# Altium footprint library tor1kkLib.PcbLib: 48 footprints (part 1 of 3)
Each footprint in its own frame and in the unit in brackets; x right, y up, seen from the top. Pads: shape width x height; smd on the part's side, far side on the other; paste and mask are expansions set on the pad; w line width, h text height; cw(c..) or ccw(c..) is an arc to the next point about the centre after c.
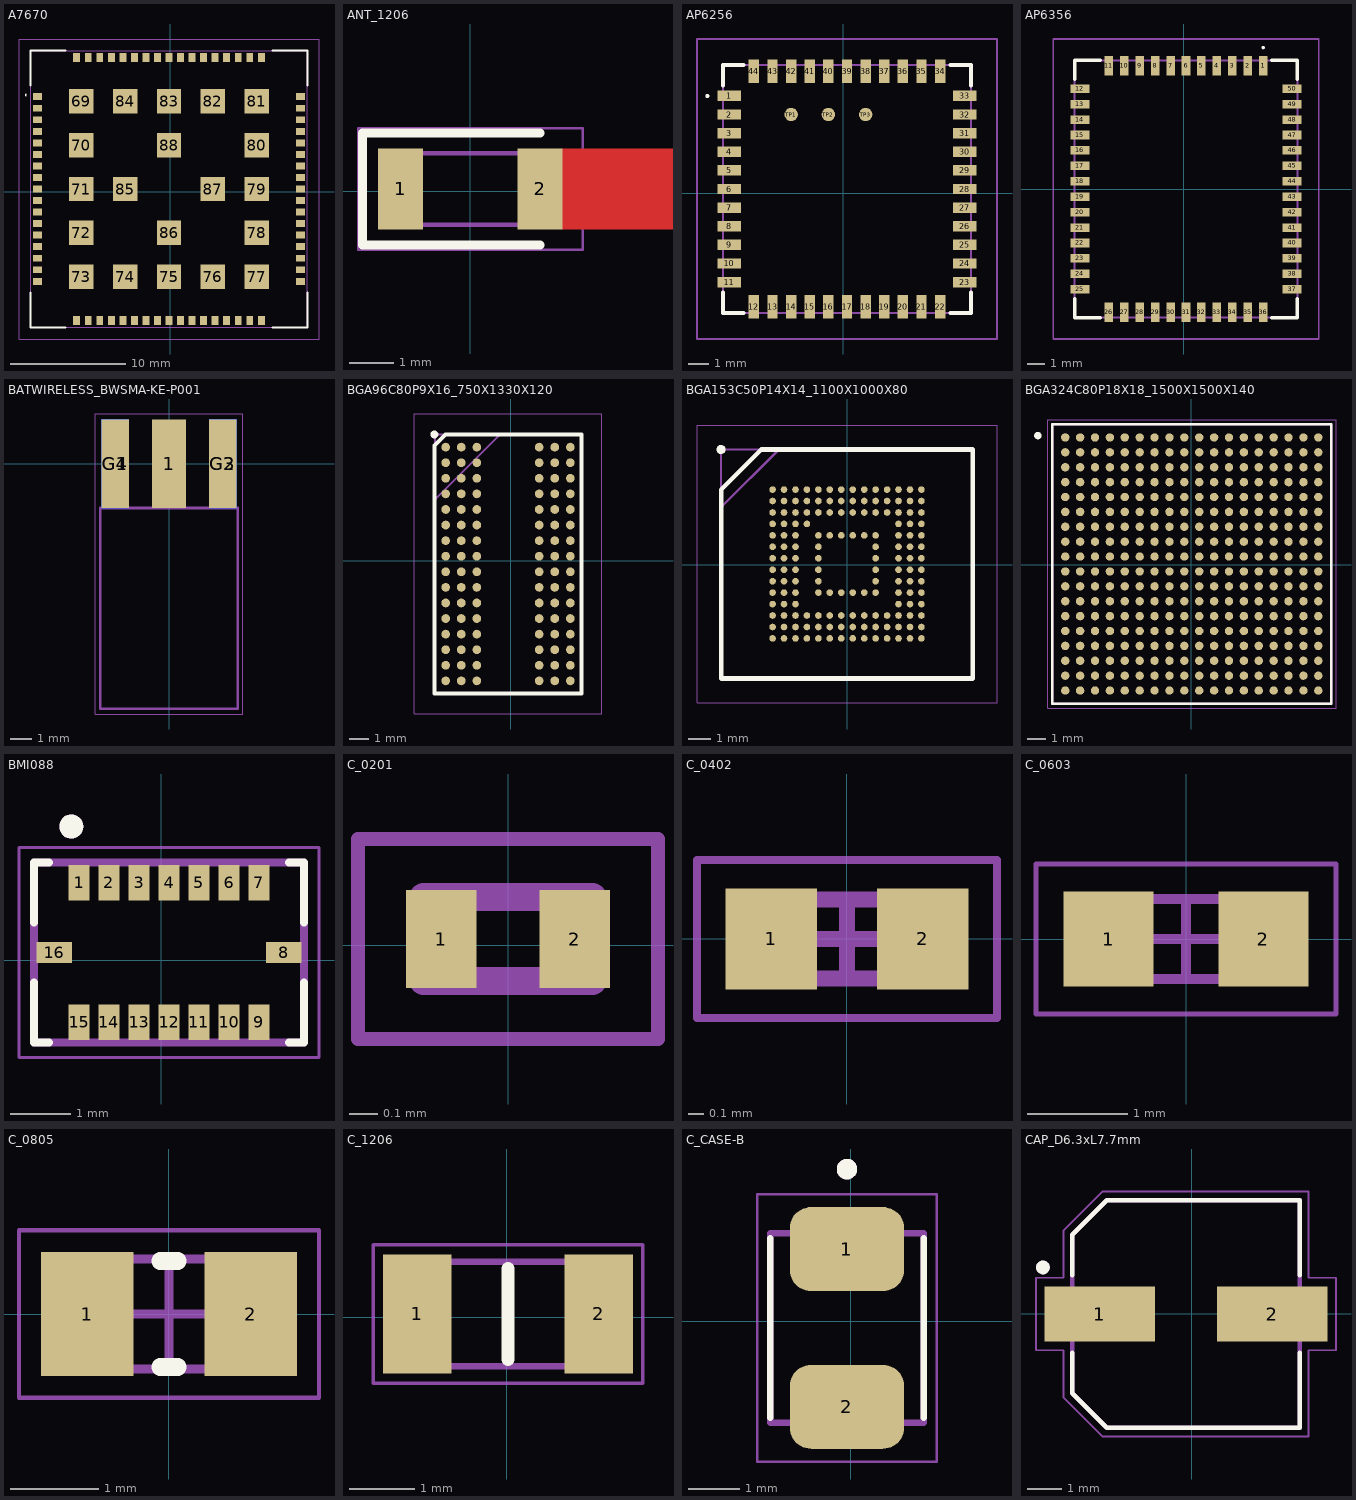
[diagram p0: the footprints below, top view; thin cyan lines are the x and y axes]

## A7670 [mm]
pads (88):
  rect 0.8x0.6 smd: 1(-11.53,8.225) 2(-11.53,7.225) 3(-11.53,6.225) 4(-11.53,5.225) 5(-11.53,4.225) 6(-11.53,3.225) 7(-11.53,2.225) 8(-11.53,1.225) 9(-11.53,0.225) 10(-11.53,-0.775) 11(-11.53,-1.775) 12(-11.53,-2.775) 13(-11.53,-3.775) 14(-11.53,-4.775) 15(-11.53,-5.775) 16(-11.53,-6.775) 17(-11.53,-7.775) 35(11.27,-7.775) 36(11.27,-6.775) 37(11.27,-5.775) 38(11.27,-4.775) 39(11.27,-3.775) 40(11.27,-2.775) 41(11.27,-1.775) 42(11.27,-0.775) 43(11.27,0.225) 44(11.27,1.225) 45(11.27,2.225) 46(11.27,3.225) 47(11.27,4.225) 48(11.27,5.225) 49(11.27,6.225) 50(11.27,7.225) 51(11.27,8.225)
  rect 0.6x0.8 smd: 18(-8.13,-11.175) 19(-7.13,-11.175) 20(-6.13,-11.175) 21(-5.13,-11.175) 22(-4.13,-11.175) 23(-3.13,-11.175) 24(-2.13,-11.175) 25(-1.13,-11.175) 26(-0.13,-11.175) 27(0.87,-11.175) 28(1.87,-11.175) 29(2.87,-11.175) 30(3.87,-11.175) 31(4.87,-11.175) 32(5.87,-11.175) 33(6.87,-11.175) 34(7.87,-11.175) 52(7.87,11.625) 53(6.87,11.625) 54(5.87,11.625) 55(4.87,11.625) 56(3.87,11.625) 57(2.87,11.625) 58(1.87,11.625) 59(0.87,11.625) 60(-0.13,11.625) 61(-1.13,11.625) 62(-2.13,11.625) 63(-3.13,11.625) 64(-4.13,11.625) 65(-5.13,11.625) 66(-6.13,11.625) 67(-7.13,11.625) 68(-8.13,11.625)
  rect 2.1x2.1 smd: 69(-7.73,7.825) 70(-7.73,4.025) 71(-7.73,0.225) 72(-7.73,-3.575) 73(-7.73,-7.375) 74(-3.93,-7.375) 75(-0.13,-7.375) 76(3.67,-7.375) 77(7.47,-7.375) 78(7.47,-3.575) 79(7.47,0.225) 80(7.47,4.025) 81(7.47,7.825) 82(3.67,7.825) 83(-0.13,7.825) 84(-3.93,7.825) 85(-3.93,0.225) 86(-0.13,-3.575) 87(3.67,0.225) 88(-0.13,4.025)
Top Overlay:
  lines w0.1: -12.53,8.325 ccw(c-12.53,8.375) -12.53,8.425 ccw(c-12.53,8.375) -12.53,8.325
  lines w0.2: -12.13,-8.775 -12.13,-11.775 -9.13,-11.775 ; -12.13,9.225 -12.13,12.225 -9.13,12.225 ; 8.87,-11.775 11.87,-11.775 11.87,-8.775 ; 8.87,12.225 11.87,12.225 11.87,9.225
Mechanical 13:
  lines w0.1: -12.13,-11.775 -12.13,12.225 11.87,12.225 11.87,-11.775 -12.13,-11.775
Mechanical 15:
  lines w0.1: -13.13,-12.775 -13.13,13.225 12.87,13.225 12.87,-12.775 -13.13,-12.775
3D body "A7670C-LNSC.stp": height 2.87, standoff 0, extent -12.13,-11.775 11.87,12.225

## ANT_1206 [mm]
pads (2):
  rect 1x1.8 smd: 1(-1.55,0.05) 2(1.55,0.05)
Top Layer:
  region: 4.525,-0.85 4.525,0.95 2.025,0.95 2.025,-0.85
Top Overlay:
  lines w0.2: 1.55,-1.2 -2.4,-1.2 -2.4,1.3 1.55,1.3
Mechanical 13:
  lines w0.05: -2.5,-1.3 2.5,-1.3 2.5,1.4 -2.5,1.4 -2.5,-1.3
  lines w0.1: -1.6,0.35 -1.1,0.85 ; -1.6,-0.75 1.6,-0.75 1.6,0.85 -1.6,0.85 -1.6,-0.75
3D body "ANT3216LL00R2400A--3DModel-STEP-269445 (1).STEP": height 1.35, standoff 0, extent -1.727,-0.75 1.473,0.85

## AP6256 [mm]
pads (47):
  rect 1.125x0.5 smd: 1(-5.499,4.695) 2(-5.499,3.795) 3(-5.499,2.895) 4(-5.499,1.995) 5(-5.499,1.095) 6(-5.499,0.195) 7(-5.499,-0.705) 8(-5.499,-1.605) 9(-5.499,-2.505) 10(-5.499,-3.405) 11(-5.499,-4.305) 23(5.877,-4.305) 24(5.877,-3.405) 25(5.877,-2.505) 26(5.877,-1.605) 27(5.877,-0.705) 28(5.877,0.195) 29(5.877,1.095) 30(5.877,1.995) 31(5.877,2.895) 32(5.877,3.795) 33(5.877,4.695)
  rect 0.5x1.125 smd: 12(-4.311,-5.493) 13(-3.411,-5.493) 14(-2.511,-5.493) 15(-1.611,-5.493) 16(-0.711,-5.493) 17(0.189,-5.493) 18(1.089,-5.493) 19(1.989,-5.493) 20(2.889,-5.493) 21(3.789,-5.493) 22(4.689,-5.493) 34(4.689,5.883) 35(3.789,5.883) 36(2.889,5.883) 37(1.989,5.883) 38(1.089,5.883) 39(0.189,5.883) 40(-0.711,5.883) 41(-1.611,5.883) 42(-2.511,5.883) 43(-3.411,5.883) 44(-4.311,5.883)
  round 0.65 smd: TP1(-2.511,3.795) TP2(-0.711,3.795) TP3(1.089,3.795)
Top Overlay:
  lines w0.1: -6.611,4.695 cw(c-6.561,4.695) -6.511,4.695 cw(c-6.561,4.695) -6.611,4.695
  lines w0.2: -5.811,-4.805 -5.811,-5.805 -4.811,-5.805 ; -5.811,5.195 -5.811,6.195 -4.811,6.195 ; 5.189,-5.805 6.189,-5.805 6.189,-4.805 ; 5.189,6.195 6.189,6.195 6.189,5.195
Mechanical 13:
  lines w0.1: -5.811,-5.805 6.189,-5.805 6.189,6.195 -5.811,6.195 -5.811,-5.805
Mechanical 15:
  lines w0.1: -7.061,-7.055 7.439,-7.055 7.439,7.445 -7.061,7.445 -7.061,-7.055
3D body "AP6256.stp": height 1.7, standoff 0, extent -5.811,-5.805 6.189,6.195

## AP6356 [mm]
pads (50):
  rect 0.5x1.125 smd: 1(4.628,7.193) 2(3.728,7.193) 3(2.828,7.193) 4(1.928,7.193) 5(1.028,7.193) 6(0.128,7.193) 7(-0.772,7.193) 8(-1.672,7.193) 9(-2.572,7.193) 10(-3.472,7.193) 11(-4.372,7.193) 26(-4.372,-7.183) 27(-3.472,-7.183) 28(-2.572,-7.183) 29(-1.672,-7.183) 30(-0.772,-7.183) 31(0.128,-7.183) 32(1.028,-7.183) 33(1.928,-7.183) 34(2.828,-7.183) 35(3.728,-7.183) 36(4.628,-7.183)
  rect 1.125x0.5 smd: 12(-6.06,5.855) 13(-6.06,4.955) 14(-6.06,4.055) 15(-6.06,3.155) 16(-6.06,2.255) 17(-6.06,1.355) 18(-6.06,0.455) 19(-6.06,-0.445) 20(-6.06,-1.345) 21(-6.06,-2.245) 22(-6.06,-3.145) 23(-6.06,-4.045) 24(-6.06,-4.945) 25(-6.06,-5.845) 37(6.316,-5.845) 38(6.316,-4.945) 39(6.316,-4.045) 40(6.316,-3.145) 41(6.316,-2.245) 42(6.316,-1.345) 43(6.316,-0.445) 44(6.316,0.455) 45(6.316,1.355) 46(6.316,2.255) 47(6.316,3.155) 48(6.316,4.055) 49(6.316,4.955) 50(6.316,5.855)
Top Overlay:
  lines w0.1: 4.628,8.205 ccw(c4.628,8.255) 4.628,8.305 ccw(c4.628,8.255) 4.628,8.205
  lines w0.2: -6.372,-6.395 -6.372,-7.495 -4.872,-7.495 ; -6.372,6.405 -6.372,7.505 -4.872,7.505 ; 5.128,-7.495 6.628,-7.495 6.628,-6.395 ; 5.128,7.505 6.628,7.505 6.628,6.405
Mechanical 13:
  lines w0.1: -6.372,-7.495 6.628,-7.495 6.628,7.505 -6.372,7.505 -6.372,-7.495
Mechanical 15:
  lines w0.1: -7.622,-8.745 7.878,-8.745 7.878,8.755 -7.622,8.755 -7.622,-8.745
3D body "AP6356.stp": height 1.7, standoff 0, extent -6.372,-7.495 6.628,7.505

## BATWIRELESS_BWSMA-KE-P001 [mm]
pads (5):
  rect 1.6x4.2 smd: 1(0,0)
  rect 1.3x4.2 smd: G1(-2.55,0) G2(2.55,0)
  rect 1.3x4.2 smd far side: G3(2.55,0) G4(-2.55,0)
Mechanical 13:
  lines w0.127: -3.25,-11.6 3.25,-11.6 3.25,-2.1 -3.25,-2.1 -3.25,-11.6
Mechanical 15:
  lines w0.05: -3.5,-11.85 3.5,-11.85 3.5,2.35 -3.5,2.35 -3.5,-11.85
3D body "BWSMA-KE-P001.stp": height 3.65, standoff -2.85, extent -3.25,-11.15 3.25,2.35

## BGA96C80P9X16_750X1330X120 [mm]
pads (96):
  round 0.45 smd: A1(-3.334,5.831) A2(-2.534,5.831) A3(-1.734,5.831) A7(1.466,5.831) A8(2.266,5.831) A9(3.066,5.831) B1(-3.334,5.031) B2(-2.534,5.031) B3(-1.734,5.031) B7(1.466,5.031) B8(2.266,5.031) B9(3.066,5.031) C1(-3.334,4.231) C2(-2.534,4.231) C3(-1.734,4.231) C7(1.466,4.231) C8(2.266,4.231) C9(3.066,4.231) D1(-3.334,3.431) D2(-2.534,3.431) D3(-1.734,3.431) D7(1.466,3.431) D8(2.266,3.431) D9(3.066,3.431) E1(-3.334,2.631) E2(-2.534,2.631) E3(-1.734,2.631) E7(1.466,2.631) E8(2.266,2.631) E9(3.066,2.631) F1(-3.334,1.831) F2(-2.534,1.831) F3(-1.734,1.831) F7(1.466,1.831) F8(2.266,1.831) F9(3.066,1.831) G1(-3.334,1.031) G2(-2.534,1.031) G3(-1.734,1.031) G7(1.466,1.031) G8(2.266,1.031) G9(3.066,1.031) H1(-3.334,0.231) H2(-2.534,0.231) H3(-1.734,0.231) H7(1.466,0.231) H8(2.266,0.231) H9(3.066,0.231) J1(-3.334,-0.569) J2(-2.534,-0.569) J3(-1.734,-0.569) J7(1.466,-0.569) J8(2.266,-0.569) J9(3.066,-0.569) K1(-3.334,-1.369) K2(-2.534,-1.369) K3(-1.734,-1.369) K7(1.466,-1.369) K8(2.266,-1.369) K9(3.066,-1.369) L1(-3.334,-2.169) L2(-2.534,-2.169) L3(-1.734,-2.169) L7(1.466,-2.169) L8(2.266,-2.169) L9(3.066,-2.169) M1(-3.334,-2.969) M2(-2.534,-2.969) M3(-1.734,-2.969) M7(1.466,-2.969) M8(2.266,-2.969) M9(3.066,-2.969) N1(-3.334,-3.769) N2(-2.534,-3.769) N3(-1.734,-3.769) N7(1.466,-3.769) N8(2.266,-3.769) N9(3.066,-3.769) P1(-3.334,-4.569) P2(-2.534,-4.569) P3(-1.734,-4.569) P7(1.466,-4.569) P8(2.266,-4.569) P9(3.066,-4.569) R1(-3.334,-5.369) R2(-2.534,-5.369) R3(-1.734,-5.369) R7(1.466,-5.369) R8(2.266,-5.369) R9(3.066,-5.369) T1(-3.334,-6.169) T2(-2.534,-6.169) T3(-1.734,-6.169) T7(1.466,-6.169) T8(2.266,-6.169) T9(3.066,-6.169)
Top Overlay:
  circle w0.2: c-3.909,6.481 r0.1
  lines w0.2: -3.909,-6.819 -3.909,5.916 -3.344,6.481 3.641,6.481 3.641,-6.819 -3.909,-6.819
Mechanical 13:
  lines w0.1: -3.884,3.131 -0.534,6.481 ; -3.884,-6.819 -3.884,6.481 3.616,6.481 3.616,-6.819 -3.884,-6.819
Mechanical 15:
  lines w0.05: -4.934,-7.869 -4.934,7.531 4.666,7.531 4.666,-7.869 -4.934,-7.869
3D body "K4B4G1646E-BYMA.stp": height 1.2, standoff 0, extent -3.884,-6.819 3.616,6.481

## BGA153C50P14X14_1100X1000X80 [mm]
pads (153):
  round 0.29 smd: A1(-3.266,3.276) A2(-2.766,3.276) A3(-2.266,3.276) A4(-1.766,3.276) A5(-1.266,3.276) A6(-0.766,3.276) A7(-0.266,3.276) A8(0.234,3.276) A9(0.734,3.276) A10(1.234,3.276) A11(1.734,3.276) A12(2.234,3.276) A13(2.734,3.276) A14(3.234,3.276) B1(-3.266,2.776) B2(-2.766,2.776) B3(-2.266,2.776) B4(-1.766,2.776) B5(-1.266,2.776) B6(-0.766,2.776) B7(-0.266,2.776) B8(0.234,2.776) B9(0.734,2.776) B10(1.234,2.776) B11(1.734,2.776) B12(2.234,2.776) B13(2.734,2.776) B14(3.234,2.776) C1(-3.266,2.276) C2(-2.766,2.276) C3(-2.266,2.276) C4(-1.766,2.276) C5(-1.266,2.276) C6(-0.766,2.276) C7(-0.266,2.276) C8(0.234,2.276) C9(0.734,2.276) C10(1.234,2.276) C11(1.734,2.276) C12(2.234,2.276) C13(2.734,2.276) C14(3.234,2.276) D1(-3.266,1.776) D2(-2.766,1.776) D3(-2.266,1.776) D4(-1.766,1.776) D12(2.234,1.776) D13(2.734,1.776) D14(3.234,1.776) E1(-3.266,1.276) E2(-2.766,1.276) E3(-2.266,1.276) E5(-1.266,1.276) E6(-0.766,1.276) E7(-0.266,1.276) E8(0.234,1.276) E9(0.734,1.276) E10(1.234,1.276) E12(2.234,1.276) E13(2.734,1.276) E14(3.234,1.276) F1(-3.266,0.776) F2(-2.766,0.776) F3(-2.266,0.776) F5(-1.266,0.776) F10(1.234,0.776) F12(2.234,0.776) F13(2.734,0.776) F14(3.234,0.776) G1(-3.266,0.276) G2(-2.766,0.276) G3(-2.266,0.276) G5(-1.266,0.276) G10(1.234,0.276) G12(2.234,0.276) G13(2.734,0.276) G14(3.234,0.276) H1(-3.266,-0.224) H2(-2.766,-0.224) H3(-2.266,-0.224) H5(-1.266,-0.224) H10(1.234,-0.224) H12(2.234,-0.224) H13(2.734,-0.224) H14(3.234,-0.224) J1(-3.266,-0.724) J2(-2.766,-0.724) J3(-2.266,-0.724) J5(-1.266,-0.724) J10(1.234,-0.724) J12(2.234,-0.724) J13(2.734,-0.724) J14(3.234,-0.724) K1(-3.266,-1.224) K2(-2.766,-1.224) K3(-2.266,-1.224) K5(-1.266,-1.224) K6(-0.766,-1.224) K7(-0.266,-1.224) K8(0.234,-1.224) K9(0.734,-1.224) K10(1.234,-1.224) K12(2.234,-1.224) K13(2.734,-1.224) K14(3.234,-1.224) L1(-3.266,-1.724) L2(-2.766,-1.724) L3(-2.266,-1.724) L12(2.234,-1.724) L13(2.734,-1.724) L14(3.234,-1.724) M1(-3.266,-2.224) M2(-2.766,-2.224) M3(-2.266,-2.224) M4(-1.766,-2.224) M5(-1.266,-2.224) M6(-0.766,-2.224) M7(-0.266,-2.224) M8(0.234,-2.224) M9(0.734,-2.224) M10(1.234,-2.224) M11(1.734,-2.224) M12(2.234,-2.224) M13(2.734,-2.224) M14(3.234,-2.224) N1(-3.266,-2.724) N2(-2.766,-2.724) N3(-2.266,-2.724) N4(-1.766,-2.724) N5(-1.266,-2.724) N6(-0.766,-2.724) N7(-0.266,-2.724) N8(0.234,-2.724) N9(0.734,-2.724) N10(1.234,-2.724) N11(1.734,-2.724) N12(2.234,-2.724) N13(2.734,-2.724) N14(3.234,-2.724) P1(-3.266,-3.224) P2(-2.766,-3.224) P3(-2.266,-3.224) P4(-1.766,-3.224) P5(-1.266,-3.224) P6(-0.766,-3.224) P7(-0.266,-3.224) P8(0.234,-3.224) P9(0.734,-3.224) P10(1.234,-3.224) P11(1.734,-3.224) P12(2.234,-3.224) P13(2.734,-3.224) P14(3.234,-3.224)
Top Overlay:
  circle w0.2: c-5.516,5.026 r0.1
  lines w0.2: -5.516,-4.974 -5.516,3.276 -3.766,5.026 5.484,5.026 5.484,-4.974 -5.516,-4.974
Mechanical 13:
  lines w0.1: -5.516,2.501 -2.991,5.026 ; -5.516,-4.974 -5.516,5.026 5.484,5.026 5.484,-4.974 -5.516,-4.974
Mechanical 15:
  lines w0.05: -6.566,-6.024 -6.566,6.076 6.534,6.076 6.534,-6.024 -6.566,-6.024
3D body "KLM4G1FETE-B041.stp": height 0.8, standoff 0, extent -5.516,-4.974 5.484,5.026

## BGA324C80P18X18_1500X1500X140 [mm]
pads (324):
  round 0.45 smd: A1(-6.768,6.849) A2(-5.968,6.849) A3(-5.168,6.849) A4(-4.368,6.849) A5(-3.568,6.849) A6(-2.768,6.849) A7(-1.968,6.849) A8(-1.168,6.849) A9(-0.368,6.849) A10(0.432,6.849) A11(1.232,6.849) A12(2.032,6.849) A13(2.832,6.849) A14(3.632,6.849) A15(4.432,6.849) A16(5.232,6.849) A17(6.032,6.849) A18(6.832,6.849) B1(-6.768,6.049) B2(-5.968,6.049) B3(-5.168,6.049) B4(-4.368,6.049) B5(-3.568,6.049) B6(-2.768,6.049) B7(-1.968,6.049) B8(-1.168,6.049) B9(-0.368,6.049) B10(0.432,6.049) B11(1.232,6.049) B12(2.032,6.049) B13(2.832,6.049) B14(3.632,6.049) B15(4.432,6.049) B16(5.232,6.049) B17(6.032,6.049) B18(6.832,6.049) C1(-6.768,5.249) C2(-5.968,5.249) C3(-5.168,5.249) C4(-4.368,5.249) C5(-3.568,5.249) C6(-2.768,5.249) C7(-1.968,5.249) C8(-1.168,5.249) C9(-0.368,5.249) C10(0.432,5.249) C11(1.232,5.249) C12(2.032,5.249) C13(2.832,5.249) C14(3.632,5.249) C15(4.432,5.249) C16(5.232,5.249) C17(6.032,5.249) C18(6.832,5.249) D1(-6.768,4.449) D2(-5.968,4.449) D3(-5.168,4.449) D4(-4.368,4.449) D5(-3.568,4.449) D6(-2.768,4.449) D7(-1.968,4.449) D8(-1.168,4.449) D9(-0.368,4.449) D10(0.432,4.449) D11(1.232,4.449) D12(2.032,4.449) D13(2.832,4.449) D14(3.632,4.449) D15(4.432,4.449) D16(5.232,4.449) D17(6.032,4.449) D18(6.832,4.449) E1(-6.768,3.649) E2(-5.968,3.649) E3(-5.168,3.649) E4(-4.368,3.649) E5(-3.568,3.649) E6(-2.768,3.649) E7(-1.968,3.649) E8(-1.168,3.649) E9(-0.368,3.649) E10(0.432,3.649) E11(1.232,3.649) E12(2.032,3.649) E13(2.832,3.649) E14(3.632,3.649) E15(4.432,3.649) E16(5.232,3.649) E17(6.032,3.649) E18(6.832,3.649) F1(-6.768,2.849) F2(-5.968,2.849) F3(-5.168,2.849) F4(-4.368,2.849) F5(-3.568,2.849) F6(-2.768,2.849) F7(-1.968,2.849) F8(-1.168,2.849) F9(-0.368,2.849) F10(0.432,2.849) F11(1.232,2.849) F12(2.032,2.849) F13(2.832,2.849) F14(3.632,2.849) F15(4.432,2.849) F16(5.232,2.849) F17(6.032,2.849) F18(6.832,2.849) G1(-6.768,2.049) G2(-5.968,2.049) G3(-5.168,2.049) G4(-4.368,2.049) G5(-3.568,2.049) G6(-2.768,2.049) G7(-1.968,2.049) G8(-1.168,2.049) G9(-0.368,2.049) G10(0.432,2.049) G11(1.232,2.049) G12(2.032,2.049) G13(2.832,2.049) G14(3.632,2.049) G15(4.432,2.049) G16(5.232,2.049) G17(6.032,2.049) G18(6.832,2.049) H1(-6.768,1.249) H2(-5.968,1.249) H3(-5.168,1.249) H4(-4.368,1.249) H5(-3.568,1.249) H6(-2.768,1.249) H7(-1.968,1.249) H8(-1.168,1.249) H9(-0.368,1.249) H10(0.432,1.249) H11(1.232,1.249) H12(2.032,1.249) H13(2.832,1.249) H14(3.632,1.249) H15(4.432,1.249) H16(5.232,1.249) H17(6.032,1.249) H18(6.832,1.249) J1(-6.768,0.449) J2(-5.968,0.449) J3(-5.168,0.449) J4(-4.368,0.449) J5(-3.568,0.449) J6(-2.768,0.449) J7(-1.968,0.449) J8(-1.168,0.449) J9(-0.368,0.449) J10(0.432,0.449) J11(1.232,0.449) J12(2.032,0.449) J13(2.832,0.449) J14(3.632,0.449) J15(4.432,0.449) J16(5.232,0.449) J17(6.032,0.449) J18(6.832,0.449) K1(-6.768,-0.351) K2(-5.968,-0.351) K3(-5.168,-0.351) K4(-4.368,-0.351) K5(-3.568,-0.351) K6(-2.768,-0.351) K7(-1.968,-0.351) K8(-1.168,-0.351) K9(-0.368,-0.351) K10(0.432,-0.351) K11(1.232,-0.351) K12(2.032,-0.351) K13(2.832,-0.351) K14(3.632,-0.351) K15(4.432,-0.351) K16(5.232,-0.351) K17(6.032,-0.351) K18(6.832,-0.351) L1(-6.768,-1.151) L2(-5.968,-1.151) L3(-5.168,-1.151) L4(-4.368,-1.151) L5(-3.568,-1.151) L6(-2.768,-1.151) L7(-1.968,-1.151) L8(-1.168,-1.151) L9(-0.368,-1.151) L10(0.432,-1.151) L11(1.232,-1.151) L12(2.032,-1.151) L13(2.832,-1.151) L14(3.632,-1.151) L15(4.432,-1.151) L16(5.232,-1.151) L17(6.032,-1.151) L18(6.832,-1.151) M1(-6.768,-1.951) M2(-5.968,-1.951) M3(-5.168,-1.951) M4(-4.368,-1.951) M5(-3.568,-1.951) M6(-2.768,-1.951) M7(-1.968,-1.951) M8(-1.168,-1.951) M9(-0.368,-1.951) M10(0.432,-1.951) M11(1.232,-1.951) M12(2.032,-1.951) M13(2.832,-1.951) M14(3.632,-1.951) M15(4.432,-1.951) M16(5.232,-1.951) M17(6.032,-1.951) M18(6.832,-1.951) N1(-6.768,-2.751) N2(-5.968,-2.751) N3(-5.168,-2.751) N4(-4.368,-2.751) N5(-3.568,-2.751) N6(-2.768,-2.751) N7(-1.968,-2.751) N8(-1.168,-2.751) N9(-0.368,-2.751) N10(0.432,-2.751) N11(1.232,-2.751) N12(2.032,-2.751) N13(2.832,-2.751) N14(3.632,-2.751) N15(4.432,-2.751) N16(5.232,-2.751) N17(6.032,-2.751) N18(6.832,-2.751) P1(-6.768,-3.551) P2(-5.968,-3.551) P3(-5.168,-3.551) P4(-4.368,-3.551) P5(-3.568,-3.551) P6(-2.768,-3.551) P7(-1.968,-3.551) P8(-1.168,-3.551) P9(-0.368,-3.551) P10(0.432,-3.551) P11(1.232,-3.551) P12(2.032,-3.551) P13(2.832,-3.551) P14(3.632,-3.551) P15(4.432,-3.551) P16(5.232,-3.551) P17(6.032,-3.551) P18(6.832,-3.551) R1(-6.768,-4.351) R2(-5.968,-4.351) R3(-5.168,-4.351) R4(-4.368,-4.351) R5(-3.568,-4.351) R6(-2.768,-4.351) R7(-1.968,-4.351) R8(-1.168,-4.351) R9(-0.368,-4.351) R10(0.432,-4.351) R11(1.232,-4.351) R12(2.032,-4.351) R13(2.832,-4.351) R14(3.632,-4.351) R15(4.432,-4.351) R16(5.232,-4.351) R17(6.032,-4.351) R18(6.832,-4.351) T1(-6.768,-5.151) T2(-5.968,-5.151) T3(-5.168,-5.151) T4(-4.368,-5.151) T5(-3.568,-5.151) T6(-2.768,-5.151) T7(-1.968,-5.151) T8(-1.168,-5.151) T9(-0.368,-5.151) T10(0.432,-5.151) T11(1.232,-5.151) T12(2.032,-5.151) T13(2.832,-5.151) T14(3.632,-5.151) T15(4.432,-5.151) T16(5.232,-5.151) T17(6.032,-5.151) T18(6.832,-5.151) U1(-6.768,-5.951) U2(-5.968,-5.951) U3(-5.168,-5.951) U4(-4.368,-5.951) U5(-3.568,-5.951) U6(-2.768,-5.951) U7(-1.968,-5.951) U8(-1.168,-5.951) U9(-0.368,-5.951) U10(0.432,-5.951) U11(1.232,-5.951) U12(2.032,-5.951) U13(2.832,-5.951) U14(3.632,-5.951) U15(4.432,-5.951) U16(5.232,-5.951) U17(6.032,-5.951) U18(6.832,-5.951) V1(-6.768,-6.751) V2(-5.968,-6.751) V3(-5.168,-6.751) V4(-4.368,-6.751) V5(-3.568,-6.751) V6(-2.768,-6.751) V7(-1.968,-6.751) V8(-1.168,-6.751) V9(-0.368,-6.751) V10(0.432,-6.751) V11(1.232,-6.751) V12(2.032,-6.751) V13(2.832,-6.751) V14(3.632,-6.751) V15(4.432,-6.751) V16(5.232,-6.751) V17(6.032,-6.751) V18(6.832,-6.751)
Top Overlay:
  circle w0.2: c-8.238,6.949 r0.1
  lines w0.127: -7.468,-7.451 -7.468,7.549 7.532,7.549 7.532,-7.451 -7.468,-7.451
Mechanical 13:
  circle w0.2: c-6.768,6.849 r0.1
  lines w0.127: -7.468,-7.451 -7.468,7.549 7.532,7.549 7.532,-7.451 -7.468,-7.451
Mechanical 15:
  lines w0.05: -7.718,-7.701 -7.718,7.799 7.782,7.799 7.782,-7.701 -7.718,-7.701
3D body "AM3358BZCZ60.STEP": height 1.4, standoff 0, extent -7.468,-7.451 7.532,7.549

## BMI088 [mm]
pads (16):
  rect 0.35x0.59 smd: 1(-1.373,1.292) 2(-0.873,1.292) 3(-0.373,1.292) 4(0.127,1.292) 5(0.627,1.292) 6(1.127,1.292) 7(1.627,1.292) 9(1.627,-1.038) 10(1.127,-1.038) 11(0.627,-1.038) 12(0.127,-1.038) 13(-0.373,-1.038) 14(-0.873,-1.038) 15(-1.373,-1.038)
  rect 0.59x0.35 smd: 8(2.042,0.127) 16(-1.788,0.127)
Top Overlay:
  circle w0.2: c-1.502,2.227 r0.1
  lines w0.127: -2.123,-0.373 -2.123,-1.373 -1.873,-1.373 ; -2.123,0.627 -2.123,1.627 -1.873,1.627 ; 2.127,-1.373 2.377,-1.373 2.377,-0.373 ; 2.127,1.627 2.377,1.627 2.377,0.627
Mechanical 13:
  circle w0.2: c-1.502,2.227 r0.1
  lines w0.127: -2.123,-1.373 -2.123,1.627 2.377,1.627 2.377,-1.373 -2.123,-1.373
Mechanical 15:
  lines w0.05: -2.373,-1.623 -2.373,1.877 2.627,1.877 2.627,-1.623 -2.373,-1.623
3D body "BMI088--3DModel-STEP-56544.STEP": height 1, standoff 0, extent -2.123,-1.373 2.377,1.627

## C_0201 [mm]
height 0.35
pads (2):
  rect 0.25x0.35 smd: 1(-0.237,0.023)
  rect 0.25x0.35 smd mask+0.1: 2(0.237,0.023)
Mechanical 13:
  lines w0.1: -0.3,-0.127 -0.3,0.173 0.3,0.173 0.3,-0.127 -0.3,-0.127
Mechanical 15:
  lines w0.05: -0.533,-0.333 -0.533,0.379 0.533,0.379 0.533,-0.333 -0.533,-0.333
3D body "GRM033R61A104KE15D.STEP": height 0.29, standoff -0.01, extent -0.3,-0.142 0.3,0.188

## C_0402 [mm]
height 0.55
pads (2):
  rect 0.58x0.64 smd: 1(-0.48,0) 2(0.48,0)
Mechanical 13:
  lines w0.1: -0.525,-0.25 -0.525,0.25 0.525,0.25 0.525,-0.25 -0.525,-0.25
Mechanical 15:
  lines w0.05: -0.95,-0.5 -0.95,0.5 0.95,0.5 0.95,-0.5 -0.95,-0.5
  lines w0.1: -0.25,0 0.25,0 ; 0,-0.25 0,0.25
3D body: height 0.55, standoff 0, extent -0.275,-0.25 0.275,0.25
3D body: height 0.55, standoff 0, extent -0.525,-0.25 -0.275,0.25
3D body: height 0.55, standoff 0, extent 0.275,-0.25 0.525,0.25

## C_0603 [mm]
height 0.65
pads (2):
  rect 0.9x0.95 smd: 1(-0.775,0) 2(0.775,0)
Mechanical 13:
  lines w0.1: -0.8,-0.4 0.8,-0.4 0.8,0.4 -0.8,0.4 -0.8,-0.4
Mechanical 15:
  lines w0.05: -1.5,-0.75 1.5,-0.75 1.5,0.75 -1.5,0.75 -1.5,-0.75
  lines w0.1: -0.4,0 0.4,0 ; 0,-0.4 0,0.4
3D body: height 0.65, standoff 0, extent 0.4,-0.4 0.8,0.4
3D body: height 0.65, standoff 0, extent -0.8,-0.4 -0.4,0.4
3D body: height 0.65, standoff 0, extent -0.4,-0.4 0.4,0.4

## C_0805 [mm]
height 0.75
pads (2):
  rect 1.05x1.4 smd: 1(-0.925,0) 2(0.925,0)
Top Overlay:
  lines w0.2: -0.1,-0.6 0.1,-0.6 ; -0.1,0.6 0.1,0.6
Mechanical 13:
  lines w0.1: -1.01,-0.625 -1.01,0.625 1.01,0.625 1.01,-0.625 -1.01,-0.625
Mechanical 15:
  lines w0.05: -1.7,-0.95 -1.7,0.95 1.7,0.95 1.7,-0.95 -1.7,-0.95
  lines w0.1: -0.5,0 0.5,0 ; 0,-0.5 0,0.5
3D body: height 0.75, standoff 0, extent -0.48,-0.625 0.48,0.625
3D body: height 0.75, standoff 0, extent -1.01,-0.625 -0.48,0.625
3D body: height 0.75, standoff 0, extent 0.48,-0.625 1.01,0.625

## C_1206 [mm]
pads (2):
  rect 1.05x1.82 smd: 1(-1.373,0.051) 2(1.407,0.051)
Top Overlay:
  lines w0.2: 0.017,-0.649 0.017,0.751
Mechanical 13:
  lines w0.1: -1.583,-0.749 1.617,-0.749 1.617,0.851 -1.583,0.851 -1.583,-0.749
Mechanical 15:
  lines w0.05: -2.048,-1.009 2.082,-1.009 2.082,1.111 -2.048,1.111 -2.048,-1.009
3D body "CL31A106KBHNNNE.stp": height 1.8, standoff 0, extent -1.583,-0.749 1.617,0.851

## C_CASE-B [mm]
pads (2):
  rrect50% 2.23x1.64 smd: 1(-0.069,1.409) 2(-0.069,-1.671)
Top Overlay:
  circle w0.2: c-0.069,2.969 r0.1
  lines w0.127: -1.569,-1.881 -1.569,1.619 ; 1.431,-1.881 1.431,1.619
Mechanical 13:
  circle w0.2: c-0.069,2.969 r0.1
  lines w0.127: -1.569,-1.981 -1.569,1.719 1.431,1.719 1.431,-1.981 -1.569,-1.981
Mechanical 15:
  lines w0.05: -1.819,-2.741 -1.819,2.479 1.681,2.479 1.681,-2.741 -1.819,-2.741
3D body "T491B476K010AT.STEP": height 2.1, standoff 0, extent -1.469,-1.75 1.331,1.75

## CAP_D6.3xL7.7mm [mm]
pads (2):
  rect 3.2x1.6 smd: 1(-2.667,-0.006) 2(2.333,-0.006)
Top Overlay:
  circle w0.2: c-4.317,1.344 r0.1
  lines w0.127: -3.467,-1.126 -3.467,-2.306 -2.467,-3.306 3.133,-3.306 3.133,-1.126 ; -3.467,1.114 -3.467,2.294 -2.467,3.294 3.133,3.294 3.133,1.114
Mechanical 13:
  circle w0.2: c-4.317,1.344 r0.1
  lines w0.127: -3.467,-2.306 -2.467,-3.306 3.133,-3.306 3.133,3.294 -2.467,3.294 -3.467,2.294 -3.467,-2.306
Mechanical 15:
  lines w0.05: -4.517,-1.056 -4.517,1.044 -3.717,1.044 -3.717,2.419 -2.592,3.544 3.383,3.544 3.383,1.044 4.183,1.044 4.183,-1.056 3.383,-1.056 3.383,-3.556 -2.592,-3.556 -3.717,-2.431 -3.717,-1.056 -4.517,-1.056
3D body "step_temp.STEP": height 7.7, standoff 0, extent -3.817,-3.306 3.483,3.294